# EAGLE library part MCP6004 (library halcyonmod_AnalogIC)
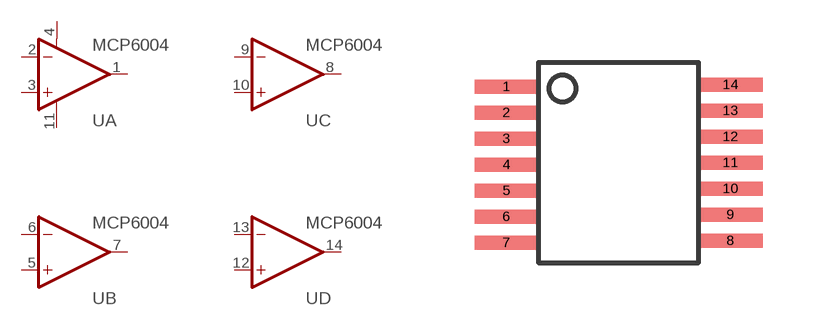
[diagram p28: symbol with the pads of TSSOP-14; footprint TSSOP-14]

Designator prefix -; gates A=OP-AMP+- B=OP-AMP C=OP-AMP D=OP-AMP

## MCP6004T-I/STCT  [TSSOP-14]
1  A:OUT  out
2  A:-IN  in
3  A:+IN  in
4  A:V+  pwr
5  B:+IN  in
6  B:-IN  in
7  B:OUT  out
8  C:OUT  out
9  C:-IN  in
10  C:+IN  in
11  A:V-  pwr
12  D:+IN  in
13  D:-IN  in
14  D:OUT  out

## Footprint TSSOP-14 (pad centres in mm)
smd 1.6 x 0.35: 1 -2.8,1.9; 2 -2.8,1.25; 3 -2.8,0.6; 4 -2.8,-0.05; 5 -2.8,-0.7; 6 -2.8,-1.35; 7 -2.8,-2; 8 2.8,-1.95; 9 2.8,-1.3; 10 2.8,-0.65; 11 2.8,0; 12 2.8,0.65; 13 2.8,1.3; 14 2.8,1.95